# EAGLE library part B15B-XH (library con-JST XH)
JST XH series header 2.50mm pitch disconnectable crimp style connectors, vertical (side entry type), 15 pins
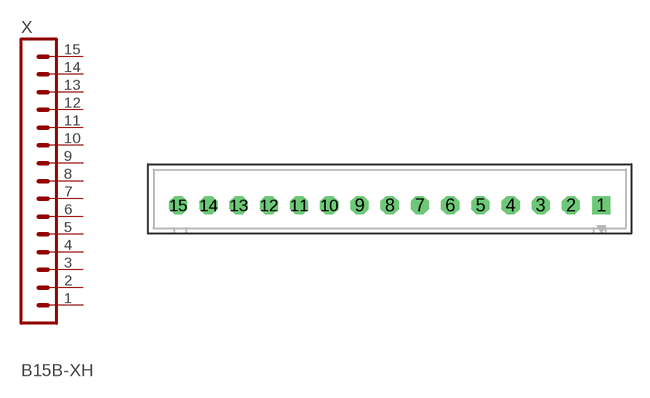
[diagram p9: symbol with the pads of B15B-XH-A; footprint B15B-XH-A]

Designator prefix X

## B15B-XH-A  [B15B-XH-A]
1  1  pas
2  2  pas
3  3  pas
4  4  pas
5  5  pas
6  6  pas
7  7  pas
8  8  pas
9  9  pas
10  10  pas
11  11  pas
12  12  pas
13  13  pas
14  14  pas
15  15  pas

## B15B-XH-2  [B15B-XH-A]
Pads as for B15B-XH-A

## Footprint B15B-XH-A (pad centres in mm)
JST XH series header 2.50mm pitch disconnectable crimp style connectors, vertical (top entry type), 15 pins
drill 0.9 pad 1.5 square: 1 17.5,0
drill 0.9 pad 1.5 octagon: 2 15,0; 3 12.5,0; 4 10,0; 5 7.5,0; 6 5,0; 7 2.5,0; 8 0,0; 9 -2.5,0; 10 -5,0; 11 -7.5,0; 12 -10,0; 13 -12.5,0; 14 -15,0; 15 -17.5,0